# EAGLE library part AP2553 (library snake)
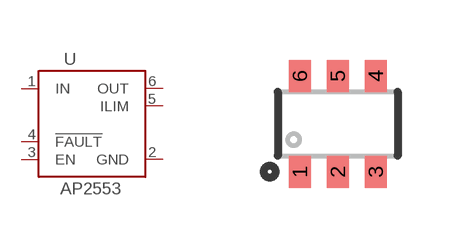
[diagram p0: symbol with the pads of SOT26; footprint SOT26]

Designator prefix -

## AP2553  [SOT26]
1  IN
2  GND
3  EN
4  !FAULT
5  ILIM
6  OUT

## Footprint SOT26 (pad centres in mm)
Footprint for SOT-26 part DMP2240UDM
smd 0.55 x 0.8: 1 -0.95,-1.2; 2 0,-1.2; 3 0.95,-1.2; 4 0.95,1.2; 5 0,1.2; 6 -0.95,1.2